# Altium footprint library PoteDigital.PcbLib: 3 footprints
Each footprint in its own frame and in the unit in brackets; x right, y up, seen from the top. Pads: shape width x height; smd on the part's side, far side on the other; paste and mask are expansions set on the pad; w line width, h text height; cw(c..) or ccw(c..) is an arc to the next point about the centre after c.
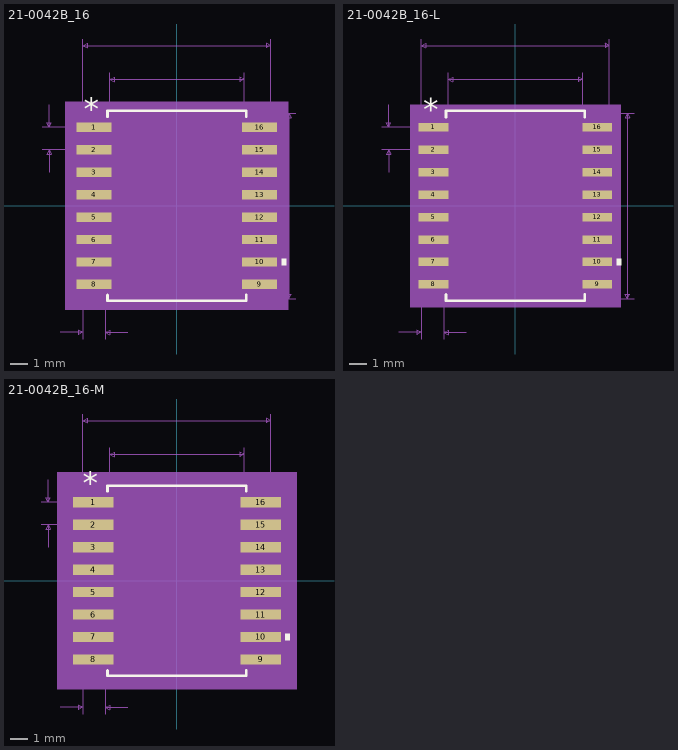
[diagram p0: the footprints below, top view; thin cyan lines are the x and y axes]

## 21-0042B_16 [mil]
pads (16):
  rect 78x21 smd paste+0 mask+0: 1(-184.5,175) 2(-184.5,125) 3(-184.5,75) 4(-184.5,25) 5(-184.5,-25) 6(-184.5,-75) 7(-184.5,-125) 8(-184.5,-175) 9(184.5,-175) 10(184.5,-125) 11(184.5,-75) 12(184.5,-25) 13(184.5,25) 14(184.5,75) 15(184.5,125) 16(184.5,175)
Top Overlay:
  region: 233.5,-117.5 243.5,-117.5 243.5,-132.5 233.5,-132.5
  lines w6: -154.5,-198.6 -154.5,-211.5 154.5,-211.5 154.5,-198.6 ; -154.5,198.6 -154.5,211.5 154.5,211.5 154.5,198.6
  text "*" at -207,191 h50
Mechanical 5:
  region: 248.5,-231.5 -248.5,-231.5 -248.5,231.5 248.5,231.5
Mechanical 7:
  lines w1: -299.5,125 -184.5,125 ; -299.5,175 -184.5,175 ; -284.5,75 -284.5,125 ; -284.5,225 -284.5,175 ; -259.5,-281.5 -209.5,-281.5 ; -209.5,-296.5 -209.5,0 -209.5,371.5 ; -159.5,-296.5 -159.5,0 ; -149.5,0 -149.5,296.5 ; -109.5,-281.5 -159.5,-281.5 ; 0,-206.5 264.5,-206.5 ; 0,206.5 264.5,206.5 ; 149.5,0 149.5,296.5 ; 209.5,0 209.5,371.5 ; -284.5,125 -289.5,115 -279.5,115 -284.5,125 ; -284.5,175 -289.5,185 -279.5,185 -284.5,175 ; -209.5,-281.5 -219.5,-276.5 -219.5,-286.5 -209.5,-281.5 ; -209.5,356.5 209.5,356.5 ; -209.5,356.5 -199.5,361.5 -199.5,351.5 -209.5,356.5 ; -159.5,-281.5 -149.5,-276.5 -149.5,-286.5 -159.5,-281.5 ; -149.5,281.5 149.5,281.5 ; -149.5,281.5 -139.5,286.5 -139.5,276.5 -149.5,281.5 ; 149.5,281.5 139.5,286.5 139.5,276.5 149.5,281.5 ; 209.5,356.5 199.5,361.5 199.5,351.5 209.5,356.5 ; 249.5,-206.5 249.5,206.5 ; 249.5,-206.5 244.5,-196.5 254.5,-196.5 249.5,-206.5 ; 249.5,206.5 244.5,196.5 254.5,196.5 249.5,206.5
  text "Default Padstyle: RX78Y21D0T" at -350,-406.5 h50
  text "Pin One Padstyle: RX78Y21D0T" at -350,-466.5 h50
  text "Alt 1 Padstyle: OX60Y90D30P" at -337.5,-646.5 h50
  text "Alt 2 Padstyle: OX90Y60D30P" at -337.5,-706.5 h50
  text "0.299in/7.595mm" at -93.75,301.5 h25
  text "0.419in/10.643mm" at -100,376.5 h25
  text "0.413in/10.49mm" at 269.5,-12.5 h25
  text "0.05in/1.27mm" at -467,137.5 h25
  text "0.05in/1.27mm" at -265.75,-326.5 h25
Mechanical 13:
  lines w0: -12,206.5 ccw(c0,206.5) 12,206.5
  lines w1: -209.5,-184.5 -209.5,-165.5 -149.5,-165.5 -149.5,-184.5 -209.5,-184.5 ; -209.5,-134.5 -209.5,-115.5 -149.5,-115.5 -149.5,-134.5 -209.5,-134.5 ; -209.5,-84.5 -209.5,-65.5 -149.5,-65.5 -149.5,-84.5 -209.5,-84.5 ; -209.5,-34.5 -209.5,-15.5 -149.5,-15.5 -149.5,-34.5 -209.5,-34.5 ; -209.5,15.5 -209.5,34.5 -149.5,34.5 -149.5,15.5 -209.5,15.5 ; -209.5,65.5 -209.5,84.5 -149.5,84.5 -149.5,65.5 -209.5,65.5 ; -209.5,115.5 -209.5,134.5 -149.5,134.5 -149.5,115.5 -209.5,115.5 ; -209.5,165.5 -209.5,184.5 -149.5,184.5 -149.5,165.5 -209.5,165.5 ; -149.5,-206.5 149.5,-206.5 149.5,206.5 -149.5,206.5 -149.5,-206.5 ; 149.5,-184.5 149.5,-165.5 209.5,-165.5 209.5,-184.5 149.5,-184.5 ; 149.5,-134.5 149.5,-115.5 209.5,-115.5 209.5,-134.5 149.5,-134.5 ; 149.5,-84.5 149.5,-65.5 209.5,-65.5 209.5,-84.5 149.5,-84.5 ; 149.5,-34.5 149.5,-15.5 209.5,-15.5 209.5,-34.5 149.5,-34.5 ; 149.5,15.5 149.5,34.5 209.5,34.5 209.5,15.5 149.5,15.5 ; 149.5,65.5 149.5,84.5 209.5,84.5 209.5,65.5 149.5,65.5 ; 149.5,115.5 149.5,134.5 209.5,134.5 209.5,115.5 149.5,115.5 ; 149.5,165.5 149.5,184.5 209.5,184.5 209.5,165.5 149.5,165.5
  text "*" at -147,153.5 h50
Mechanical 15:
  region: -159.5,-195.5 -233.5,-195.5 -233.5,195.5 -159.5,195.5 -159.5,216.5 159.5,216.5 159.5,195.5 233.5,195.5 233.5,-195.5 159.5,-195.5 159.5,-216.5 -159.5,-216.5
  lines w6: -233.5,-195.5 -233.5,195.5 -159.5,195.5 -159.5,216.5 159.5,216.5 159.5,195.5 233.5,195.5 233.5,-195.5 159.5,-195.5 159.5,-216.5 -159.5,-216.5 -159.5,-195.5 -233.5,-195.5
3D body: height 10, standoff 0, extent 0,0 10,10

## 21-0042B_16-L [mil]
pads (16):
  rect 66x19 smd paste+0 mask+0: 1(-182.5,175) 2(-182.5,125) 3(-182.5,75) 4(-182.5,25) 5(-182.5,-25) 6(-182.5,-75) 7(-182.5,-125) 8(-182.5,-175) 9(182.5,-175) 10(182.5,-125) 11(182.5,-75) 12(182.5,-25) 13(182.5,25) 14(182.5,75) 15(182.5,125) 16(182.5,175)
Top Overlay:
  region: 225.5,-117.5 235.5,-117.5 235.5,-132.5 225.5,-132.5
  lines w6: -154.5,-197.6 -154.5,-211.5 154.5,-211.5 154.5,-197.6 ; -154.5,197.6 -154.5,211.5 154.5,211.5 154.5,197.6
  text "*" at -205,189 h50
Mechanical 5:
  region: 234.5,-225.5 -234.5,-225.5 -234.5,225.5 234.5,225.5
Mechanical 7:
  lines w1: -297.5,125 -182.5,125 ; -297.5,175 -182.5,175 ; -282.5,75 -282.5,125 ; -282.5,225 -282.5,175 ; -259.5,-281.5 -209.5,-281.5 ; -209.5,-296.5 -209.5,0 -209.5,371.5 ; -159.5,-296.5 -159.5,0 ; -149.5,0 -149.5,296.5 ; -109.5,-281.5 -159.5,-281.5 ; 0,-206.5 264.5,-206.5 ; 0,206.5 264.5,206.5 ; 149.5,0 149.5,296.5 ; 209.5,0 209.5,371.5 ; -282.5,125 -287.5,115 -277.5,115 -282.5,125 ; -282.5,175 -287.5,185 -277.5,185 -282.5,175 ; -209.5,-281.5 -219.5,-276.5 -219.5,-286.5 -209.5,-281.5 ; -209.5,356.5 209.5,356.5 ; -209.5,356.5 -199.5,361.5 -199.5,351.5 -209.5,356.5 ; -159.5,-281.5 -149.5,-276.5 -149.5,-286.5 -159.5,-281.5 ; -149.5,281.5 149.5,281.5 ; -149.5,281.5 -139.5,286.5 -139.5,276.5 -149.5,281.5 ; 149.5,281.5 139.5,286.5 139.5,276.5 149.5,281.5 ; 209.5,356.5 199.5,361.5 199.5,351.5 209.5,356.5 ; 249.5,-206.5 249.5,206.5 ; 249.5,-206.5 244.5,-196.5 254.5,-196.5 249.5,-206.5 ; 249.5,206.5 244.5,196.5 254.5,196.5 249.5,206.5
  text "Default Padstyle: RX66Y19D0T" at -350,-406.5 h50
  text "Pin One Padstyle: RX66Y19D0T" at -350,-466.5 h50
  text "Alt 1 Padstyle: OX60Y90D30P" at -337.5,-646.5 h50
  text "Alt 2 Padstyle: OX90Y60D30P" at -337.5,-706.5 h50
  text "0.299in/7.595mm" at -93.75,301.5 h25
  text "0.419in/10.643mm" at -100,376.5 h25
  text "0.413in/10.49mm" at 269.5,-12.5 h25
  text "0.05in/1.27mm" at -465,137.5 h25
  text "0.05in/1.27mm" at -265.75,-326.5 h25
Mechanical 13:
  lines w0: -12,206.5 ccw(c0,206.5) 12,206.5
  lines w1: -209.5,-184.5 -209.5,-165.5 -149.5,-165.5 -149.5,-184.5 -209.5,-184.5 ; -209.5,-134.5 -209.5,-115.5 -149.5,-115.5 -149.5,-134.5 -209.5,-134.5 ; -209.5,-84.5 -209.5,-65.5 -149.5,-65.5 -149.5,-84.5 -209.5,-84.5 ; -209.5,-34.5 -209.5,-15.5 -149.5,-15.5 -149.5,-34.5 -209.5,-34.5 ; -209.5,15.5 -209.5,34.5 -149.5,34.5 -149.5,15.5 -209.5,15.5 ; -209.5,65.5 -209.5,84.5 -149.5,84.5 -149.5,65.5 -209.5,65.5 ; -209.5,115.5 -209.5,134.5 -149.5,134.5 -149.5,115.5 -209.5,115.5 ; -209.5,165.5 -209.5,184.5 -149.5,184.5 -149.5,165.5 -209.5,165.5 ; -149.5,-206.5 149.5,-206.5 149.5,206.5 -149.5,206.5 -149.5,-206.5 ; 149.5,-184.5 149.5,-165.5 209.5,-165.5 209.5,-184.5 149.5,-184.5 ; 149.5,-134.5 149.5,-115.5 209.5,-115.5 209.5,-134.5 149.5,-134.5 ; 149.5,-84.5 149.5,-65.5 209.5,-65.5 209.5,-84.5 149.5,-84.5 ; 149.5,-34.5 149.5,-15.5 209.5,-15.5 209.5,-34.5 149.5,-34.5 ; 149.5,15.5 149.5,34.5 209.5,34.5 209.5,15.5 149.5,15.5 ; 149.5,65.5 149.5,84.5 209.5,84.5 209.5,65.5 149.5,65.5 ; 149.5,115.5 149.5,134.5 209.5,134.5 209.5,115.5 149.5,115.5 ; 149.5,165.5 149.5,184.5 209.5,184.5 209.5,165.5 149.5,165.5
  text "*" at -147,153.5 h50
Mechanical 15:
  region: -153.5,-188.5 -219.5,-188.5 -219.5,188.5 -153.5,188.5 -153.5,210.5 153.5,210.5 153.5,188.5 219.5,188.5 219.5,-188.5 153.5,-188.5 153.5,-210.5 -153.5,-210.5
  lines w6: -219.5,-188.5 -219.5,188.5 -153.5,188.5 -153.5,210.5 153.5,210.5 153.5,188.5 219.5,188.5 219.5,-188.5 153.5,-188.5 153.5,-210.5 -153.5,-210.5 -153.5,-188.5 -219.5,-188.5
3D body: height 10, standoff 0, extent 0,0 10,10

## 21-0042B_16-M [mil]
pads (16):
  rect 90x23 smd paste+0 mask+0: 1(-186.5,175) 2(-186.5,125) 3(-186.5,75) 4(-186.5,25) 5(-186.5,-25) 6(-186.5,-75) 7(-186.5,-125) 8(-186.5,-175) 9(186.5,-175) 10(186.5,-125) 11(186.5,-75) 12(186.5,-25) 13(186.5,25) 14(186.5,75) 15(186.5,125) 16(186.5,175)
Top Overlay:
  region: 241.5,-117.5 251.5,-117.5 251.5,-132.5 241.5,-132.5
  lines w6: -154.5,-199.6 -154.5,-211.5 154.5,-211.5 154.5,-199.6 ; -154.5,199.6 -154.5,211.5 154.5,211.5 154.5,199.6
  text "*" at -209,193 h50
Mechanical 5:
  region: 266.5,-241.5 -266.5,-241.5 -266.5,241.5 266.5,241.5
Mechanical 7:
  lines w1: -301.5,125 -186.5,125 ; -301.5,175 -186.5,175 ; -286.5,75 -286.5,125 ; -286.5,225 -286.5,175 ; -259.5,-281.5 -209.5,-281.5 ; -209.5,-296.5 -209.5,0 -209.5,371.5 ; -159.5,-296.5 -159.5,0 ; -149.5,0 -149.5,296.5 ; -109.5,-281.5 -159.5,-281.5 ; 0,-206.5 264.5,-206.5 ; 0,206.5 264.5,206.5 ; 149.5,0 149.5,296.5 ; 209.5,0 209.5,371.5 ; -286.5,125 -291.5,115 -281.5,115 -286.5,125 ; -286.5,175 -291.5,185 -281.5,185 -286.5,175 ; -209.5,-281.5 -219.5,-276.5 -219.5,-286.5 -209.5,-281.5 ; -209.5,356.5 209.5,356.5 ; -209.5,356.5 -199.5,361.5 -199.5,351.5 -209.5,356.5 ; -159.5,-281.5 -149.5,-276.5 -149.5,-286.5 -159.5,-281.5 ; -149.5,281.5 149.5,281.5 ; -149.5,281.5 -139.5,286.5 -139.5,276.5 -149.5,281.5 ; 149.5,281.5 139.5,286.5 139.5,276.5 149.5,281.5 ; 209.5,356.5 199.5,361.5 199.5,351.5 209.5,356.5 ; 249.5,-206.5 249.5,206.5 ; 249.5,-206.5 244.5,-196.5 254.5,-196.5 249.5,-206.5 ; 249.5,206.5 244.5,196.5 254.5,196.5 249.5,206.5
  text "Default Padstyle: RX90Y23D0T" at -350,-406.5 h50
  text "Pin One Padstyle: RX90Y23D0T" at -350,-466.5 h50
  text "Alt 1 Padstyle: OX60Y90D30P" at -337.5,-646.5 h50
  text "Alt 2 Padstyle: OX90Y60D30P" at -337.5,-706.5 h50
  text "0.299in/7.595mm" at -93.75,301.5 h25
  text "0.419in/10.643mm" at -100,376.5 h25
  text "0.413in/10.49mm" at 269.5,-12.5 h25
  text "0.05in/1.27mm" at -469,137.5 h25
  text "0.05in/1.27mm" at -265.75,-326.5 h25
Mechanical 13:
  lines w0: -12,206.5 ccw(c0,206.5) 12,206.5
  lines w1: -209.5,-184.5 -209.5,-165.5 -149.5,-165.5 -149.5,-184.5 -209.5,-184.5 ; -209.5,-134.5 -209.5,-115.5 -149.5,-115.5 -149.5,-134.5 -209.5,-134.5 ; -209.5,-84.5 -209.5,-65.5 -149.5,-65.5 -149.5,-84.5 -209.5,-84.5 ; -209.5,-34.5 -209.5,-15.5 -149.5,-15.5 -149.5,-34.5 -209.5,-34.5 ; -209.5,15.5 -209.5,34.5 -149.5,34.5 -149.5,15.5 -209.5,15.5 ; -209.5,65.5 -209.5,84.5 -149.5,84.5 -149.5,65.5 -209.5,65.5 ; -209.5,115.5 -209.5,134.5 -149.5,134.5 -149.5,115.5 -209.5,115.5 ; -209.5,165.5 -209.5,184.5 -149.5,184.5 -149.5,165.5 -209.5,165.5 ; -149.5,-206.5 149.5,-206.5 149.5,206.5 -149.5,206.5 -149.5,-206.5 ; 149.5,-184.5 149.5,-165.5 209.5,-165.5 209.5,-184.5 149.5,-184.5 ; 149.5,-134.5 149.5,-115.5 209.5,-115.5 209.5,-134.5 149.5,-134.5 ; 149.5,-84.5 149.5,-65.5 209.5,-65.5 209.5,-84.5 149.5,-84.5 ; 149.5,-34.5 149.5,-15.5 209.5,-15.5 209.5,-34.5 149.5,-34.5 ; 149.5,15.5 149.5,34.5 209.5,34.5 209.5,15.5 149.5,15.5 ; 149.5,65.5 149.5,84.5 209.5,84.5 209.5,65.5 149.5,65.5 ; 149.5,115.5 149.5,134.5 209.5,134.5 209.5,115.5 149.5,115.5 ; 149.5,165.5 149.5,184.5 209.5,184.5 209.5,165.5 149.5,165.5
  text "*" at -147,153.5 h50
Mechanical 15:
  region: -169.5,-206.5 -251.5,-206.5 -251.5,206.5 -169.5,206.5 -169.5,226.5 169.5,226.5 169.5,206.5 251.5,206.5 251.5,-206.5 169.5,-206.5 169.5,-226.5 -169.5,-226.5
  lines w6: -251.5,-206.5 -251.5,206.5 -169.5,206.5 -169.5,226.5 169.5,226.5 169.5,206.5 251.5,206.5 251.5,-206.5 169.5,-206.5 169.5,-226.5 -169.5,-226.5 -169.5,-206.5 -251.5,-206.5
3D body: height 10, standoff 0, extent 0,0 10,10